# Altium schematic symbol library ESP32-DevKitC-V4_20180607A_Library.SchLib: 16 symbols
Pins are listed as number, name and electrical type; pins without a type are passive.

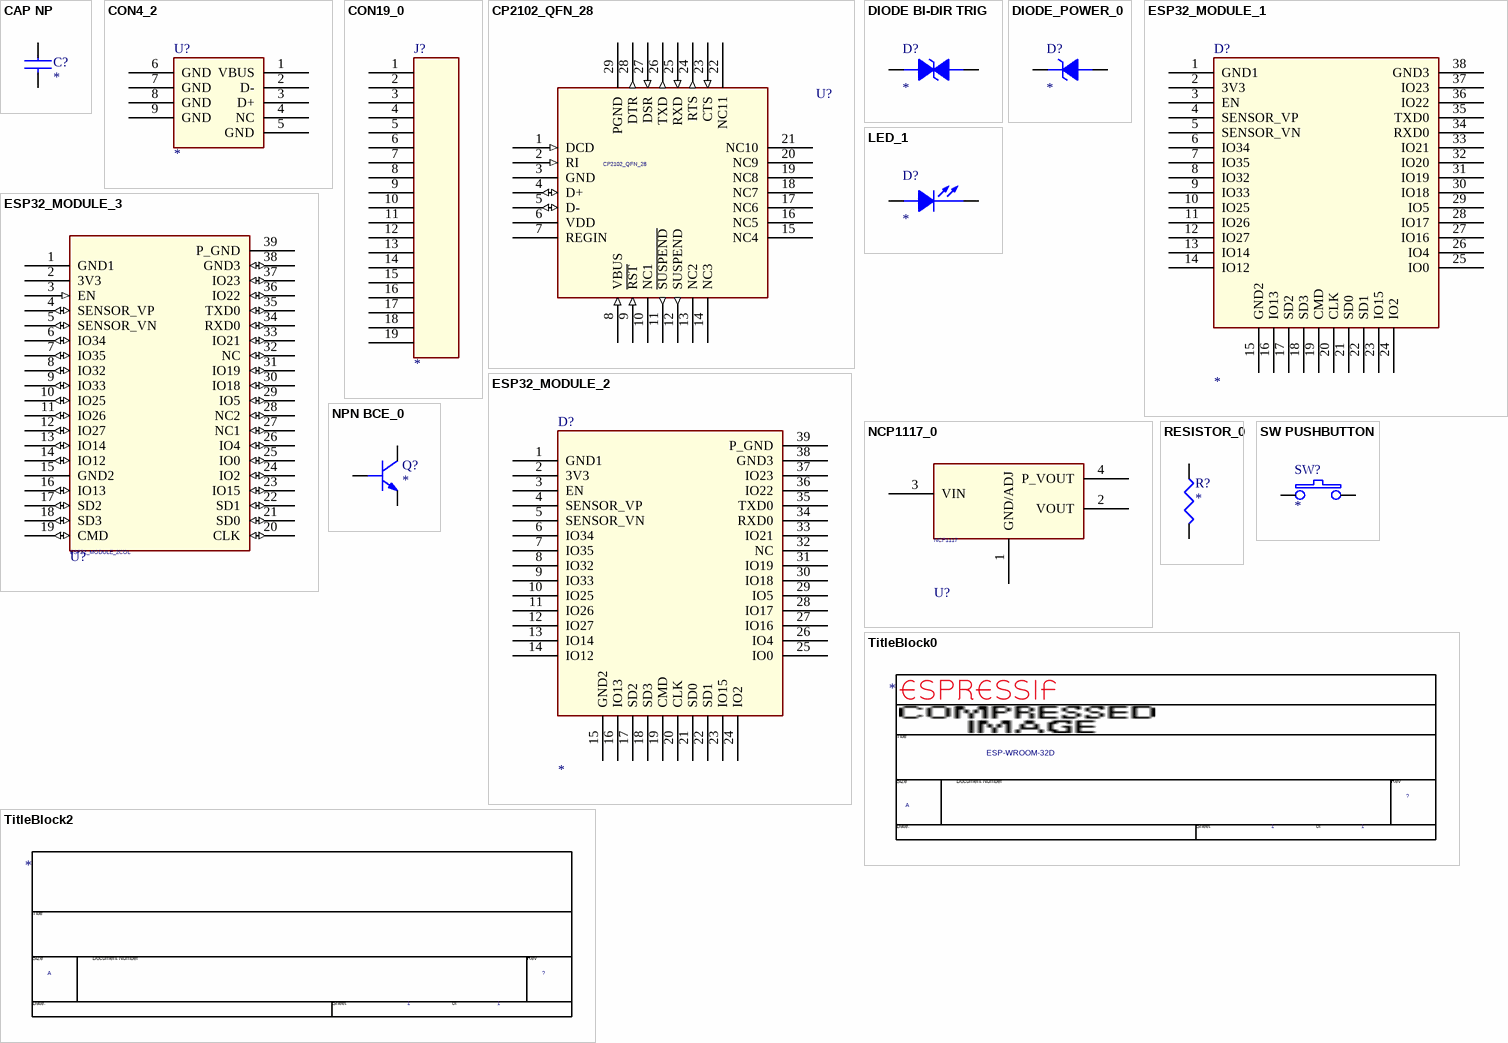
[diagram p0: symbols CAP NP to TitleBlock2]

## CAP NP
designator C?
pins: 1, 2

## CON4_2
designator U?
pins: 1 VBUS (power), 2 D-, 3 D+, 4 NC, 5 GND (power), 6 GND (power), 7 GND (power), 8 GND (power), 9 GND (power)

## CON19_0
designator J?
pins: 1, 2, 3, 4, 5, 6, 7, 8, 9, 10, 11, 12, 13, 14, 15, 16, 17, 18, 19

## CP2102_QFN_28
designator U?
pins: 1 DCD (in), 2 RI (in), 3 GND (power), 4 D+ (io), 5 D- (io), 6 VDD (power), 7 REGIN (power), 8 VBUS (in), 9 ~{RST} (in), 10 NC1, 11 ~{SUSPEND} (out), 12 SUSPEND (out), 13 NC2, 14 NC3, 15 NC4, 16 NC5, 17 NC6, 18 NC7, 19 NC8, 20 NC9, 21 NC10, 22 NC11, 23 CTS (in), 24 RTS (out), 25 RXD (in), 26 TXD (out), 27 DSR (in), 28 DTR (out), 29 PGND (power)

## DIODE BI-DIR TRIG
designator D?
footprint ESD0402
pins: 1, 2

## DIODE_POWER_0
designator D?
pins: 1, 2

## ESP32_MODULE_1
designator D?
pins: 1 GND1 (power), 2 3V3 (power), 3 EN, 4 SENSOR_VP, 5 SENSOR_VN, 6 IO34, 7 IO35, 8 IO32, 9 IO33, 10 IO25, 11 IO26, 12 IO27, 13 IO14, 14 IO12, 15 GND2 (power), 16 IO13, 17 SD2, 18 SD3, 19 CMD, 20 CLK, 21 SD0, 22 SD1, 23 IO15, 24 IO2, 25 IO0, 26 IO4, 27 IO16, 28 IO17, 29 IO5, 30 IO18, 31 IO19, 32 IO20, 33 IO21, 34 RXD0, 35 TXD0, 36 IO22, 37 IO23, 38 GND3

## ESP32_MODULE_2
designator D?
pins: 1 GND1 (power), 2 3V3 (power), 3 EN, 4 SENSOR_VP, 5 SENSOR_VN, 6 IO34, 7 IO35, 8 IO32, 9 IO33, 10 IO25, 11 IO26, 12 IO27, 13 IO14, 14 IO12, 15 GND2 (power), 16 IO13, 17 SD2, 18 SD3, 19 CMD, 20 CLK, 21 SD0, 22 SD1, 23 IO15, 24 IO2, 25 IO0, 26 IO4, 27 IO16, 28 IO17, 29 IO5, 30 IO18, 31 IO19, 32 NC, 33 IO21, 34 RXD0, 35 TXD0, 36 IO22, 37 IO23, 38 GND3, 39 P_GND (power)

## ESP32_MODULE_3
designator U?, comment ESP32_MODULE_2COL
footprint ESP32_MODULE_2COL
pins: 1 GND1 (power), 2 3V3 (power), 3 EN (in), 4 SENSOR_VP (io), 5 SENSOR_VN (io), 6 IO34 (io), 7 IO35 (io), 8 IO32 (io), 9 IO33 (io), 10 IO25 (io), 11 IO26 (io), 12 IO27 (io), 13 IO14 (io), 14 IO12 (io), 15 GND2 (power), 16 IO13 (io), 17 SD2 (io), 18 SD3 (io), 19 CMD (io), 20 CLK (io), 21 SD0 (io), 22 SD1 (io), 23 IO15 (io), 24 IO2 (io), 25 IO0 (io), 26 IO4 (io), 27 NC1 (io), 28 NC2 (io), 29 IO5 (io), 30 IO18 (io), 31 IO19 (io), 32 NC (io), 33 IO21 (io), 34 RXD0 (io), 35 TXD0 (io), 36 IO22 (io), 37 IO23 (io), 38 GND3 (io), 39 P_GND (power)

## LED_1
designator D?
pins: 1 ANODE, 2 CATHODE

## NCP1117_0
designator U?, comment NCP1117
pins: 1 GND/ADJ, 2 VOUT (power), 3 VIN (power), 4 P_VOUT (power)

## NPN BCE_0
designator Q?
PspiceTemplate: Q^@REFDES %C %B %E
simulation model NPN BCE_0
pins: 1 B, 2 E, 3 C

## RESISTOR_0
designator R?
pins: 1, 2

## SW PUSHBUTTON
designator SW?
pins: 1, 2

## TitleBlock0
designator *  Title: ESP-WROOM-32D  Page Size: A  Page Number: 1  (graphical)
Page Create Date: March  8, 1995; RevCode: ?; Page Count: 1
text: Title; Size; Document Number; Rev; Date:; Sheet; of

## TitleBlock2
designator *  Page Size: A  Page Number: 1  (graphical)
Page Create Date: March  8, 1995; RevCode: ?; Page Count: 1
text: Title; Size; Document Number; Rev; Date:; Sheet; of